# Altium footprint library TO-263-5.PcbLib: 1 footprints
Each footprint in its own frame and in the unit in brackets; x right, y up, seen from the top. Pads: shape width x height; smd on the part's side, far side on the other; paste and mask are expansions set on the pad; w line width, h text height; cw(c..) or ccw(c..) is an arc to the next point about the centre after c.
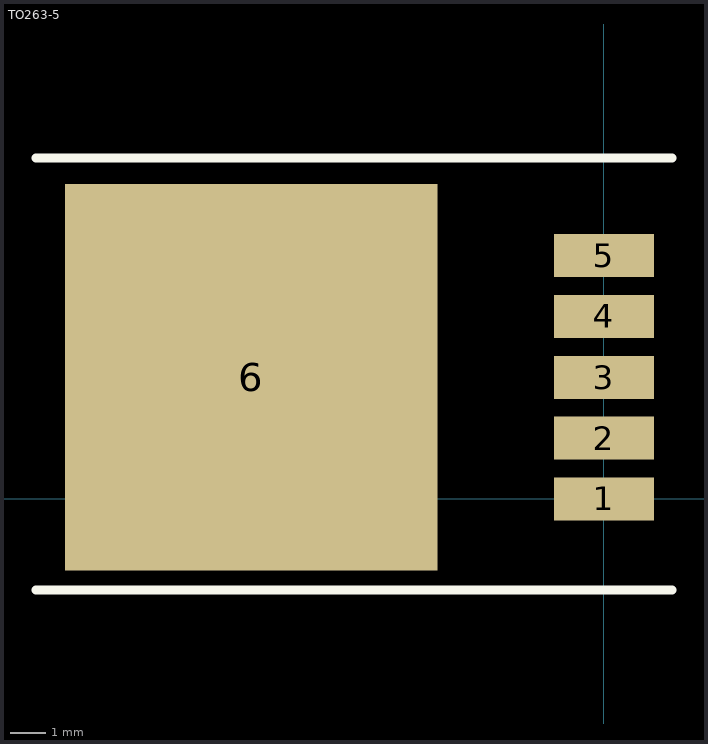
[diagram p0: the footprint, top view; thin cyan lines are the x and y axes]

## TO263-5 [mm]
pads (6):
  rect 2.8x1.2 smd: 1(0,0) 2(0,1.7) 3(0,3.4) 4(0,5.1) 5(0,6.8)
  rect 10.41x10.8 smd: 6(-9.86,3.4)
Top Overlay:
  lines w0.254: -15.875,-2.54 1.905,-2.54 ; -15.875,9.525 1.905,9.525
3D body: height 4.67, standoff 0, extent -14.305,-1.771 0.045,8.629